# EAGLE library part ST1PS02 (library ICs)
400 mA nano-quiescent synchronous step-down converter with digital voltage selection, Power Good and AUX switch
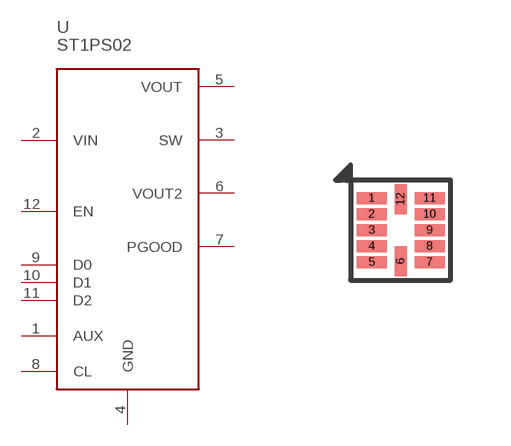
[diagram p282: symbol with the pads of TQFN12; footprint TQFN12]

Designator prefix U

## ST1PS02CQTR (DIGIKEY: 497-ST1PS02CQCT-ND; HEIGHT: 1; PRICE_PER: 1.3; VALUE: ST1PS02)  [TQFN12]
1  AUX
2  VIN
3  SW
4  GND
5  VOUT
6  VOUT2
7  PGOOD
8  CL
9  D0
10  D1
11  D2
12  EN

## Footprint TQFN12 (pad centres in mm)
smd 0.75 x 0.3: 1 -0.725,0.8; 2 -0.725,0.4; 3 -0.725,0; 4 -0.725,-0.4; 5 -0.725,-0.8; 7 0.725,-0.8; 8 0.725,-0.4; 9 0.725,0; 10 0.725,0.4; 11 0.725,0.8
smd 0.3 x 0.75: 6 0,-0.775; 12 0,0.775